# Altium schematic symbol library HLK-M20原理图库.SchLib: 1 symbol
Pins are listed as number, name and electrical type; pins without a type are passive.

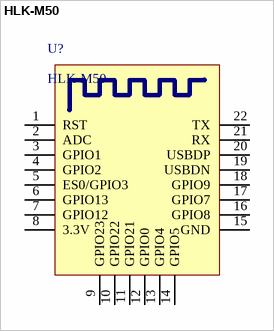
[diagram p0: symbol HLK-M50]

## HLK-M50
designator U?
M50 MOUDLE
footprint M50 (Footprint not found)
pins: 1 RST, 2 ADC, 3 GPIO1, 4 GPIO2, 5 ES0/GPIO3, 6 GPIO13, 7 GPIO12, 8 3.3V, 9 GPIO23, 10 GPIO22, 11 GPIO21, 12 GPIO0, 13 GPIO4, 14 GPIO5, 15 GND, 16 GPIO8, 17 GPIO7, 18 GPIO9, 19 USBDN, 20 USBDP, 21 RX, 22 TX